# Altium footprint library Lab13.PcbLib: 4 footprints
Each footprint in its own frame and in the unit in brackets; x right, y up, seen from the top. Pads: shape width x height; smd on the part's side, far side on the other; paste and mask are expansions set on the pad; w line width, h text height; cw(c..) or ccw(c..) is an arc to the next point about the centre after c.
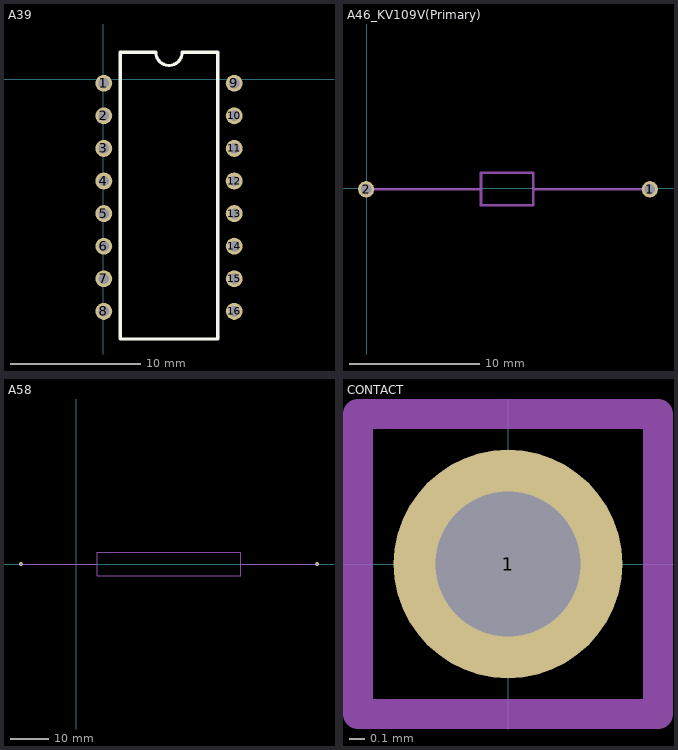
[diagram p0: the footprints below, top view; thin cyan lines are the x and y axes]

## A39 [mm]
pads (16):
  round 1.3 hole 0.8: 1(0.03,-0.289) 2(0.03,-2.789) 3(0.03,-5.289) 4(0.03,-7.789) 5(0.03,-10.289) 6(0.03,-12.789) 7(0.03,-15.289) 8(0.03,-17.789) 9(10.03,-0.289) 10(10.03,-2.789) 11(10.03,-5.289) 12(10.03,-7.789) 13(10.03,-10.289) 14(10.03,-12.789) 15(10.03,-15.289) 16(10.03,-17.789)
Top Overlay:
  lines w0.254: 1.28,1.963 1.28,-19.91 8.78,-19.91 8.78,2.09 6.046,2.09 cw(c5.03,2.09) 4.014,2.09 1.28,2.09
3D body "A39.step": height 5, standoff -5.8, extent -0.264,-19.885 10.266,2.115

## A46_KV109V(Primary) [mm]
pads (2):
  round 1.25 hole 0.8: 1(21.692,-0.075) 2(-0.051,-0.075)
Mechanical 1:
  lines w0.2: -0.051,-0.075 8.75,-0.075 ; 12.75,-0.075 21.692,-0.075 ; 8.75,-1.3 12.75,-1.3 12.75,1.2 8.75,1.2 8.75,-1.3
3D body "A46.step": height 2.39, standoff -3.95, extent -0.167,-1.382 21.743,1.118

## A58 [mm]
pads (2):
  round 1 hole 0.5: 1(-14.25,0) 2(62.25,0)
Mechanical 1:
  lines w0.2: -14.25,0 5.5,0 ; 42.5,0 62.25,0 ; 5.5,-3 5.5,3 42.5,3 42.5,-3 5.5,-3
3D body "A58.step": height 6, standoff -17, extent -14.5,-3 62.5,3

## CONTACT [mil]
pads (1):
  round 60 hole 38: 1(0,0)
Mechanical 1:
  lines w7.87: -39.37,-39.37 -39.37,39.37 39.37,39.37 39.37,-39.37 -39.37,-39.37